# Altium footprint library IPC-7358 BGA_Sq_100P.PcbLib: 50 footprints (part 1 of 14)
Each footprint in its own frame and in the unit in brackets; x right, y up, seen from the top. Pads: shape width x height; smd on the part's side, far side on the other; paste and mask are expansions set on the pad; w line width, h text height; cw(c..) or ccw(c..) is an arc to the next point about the centre after c.
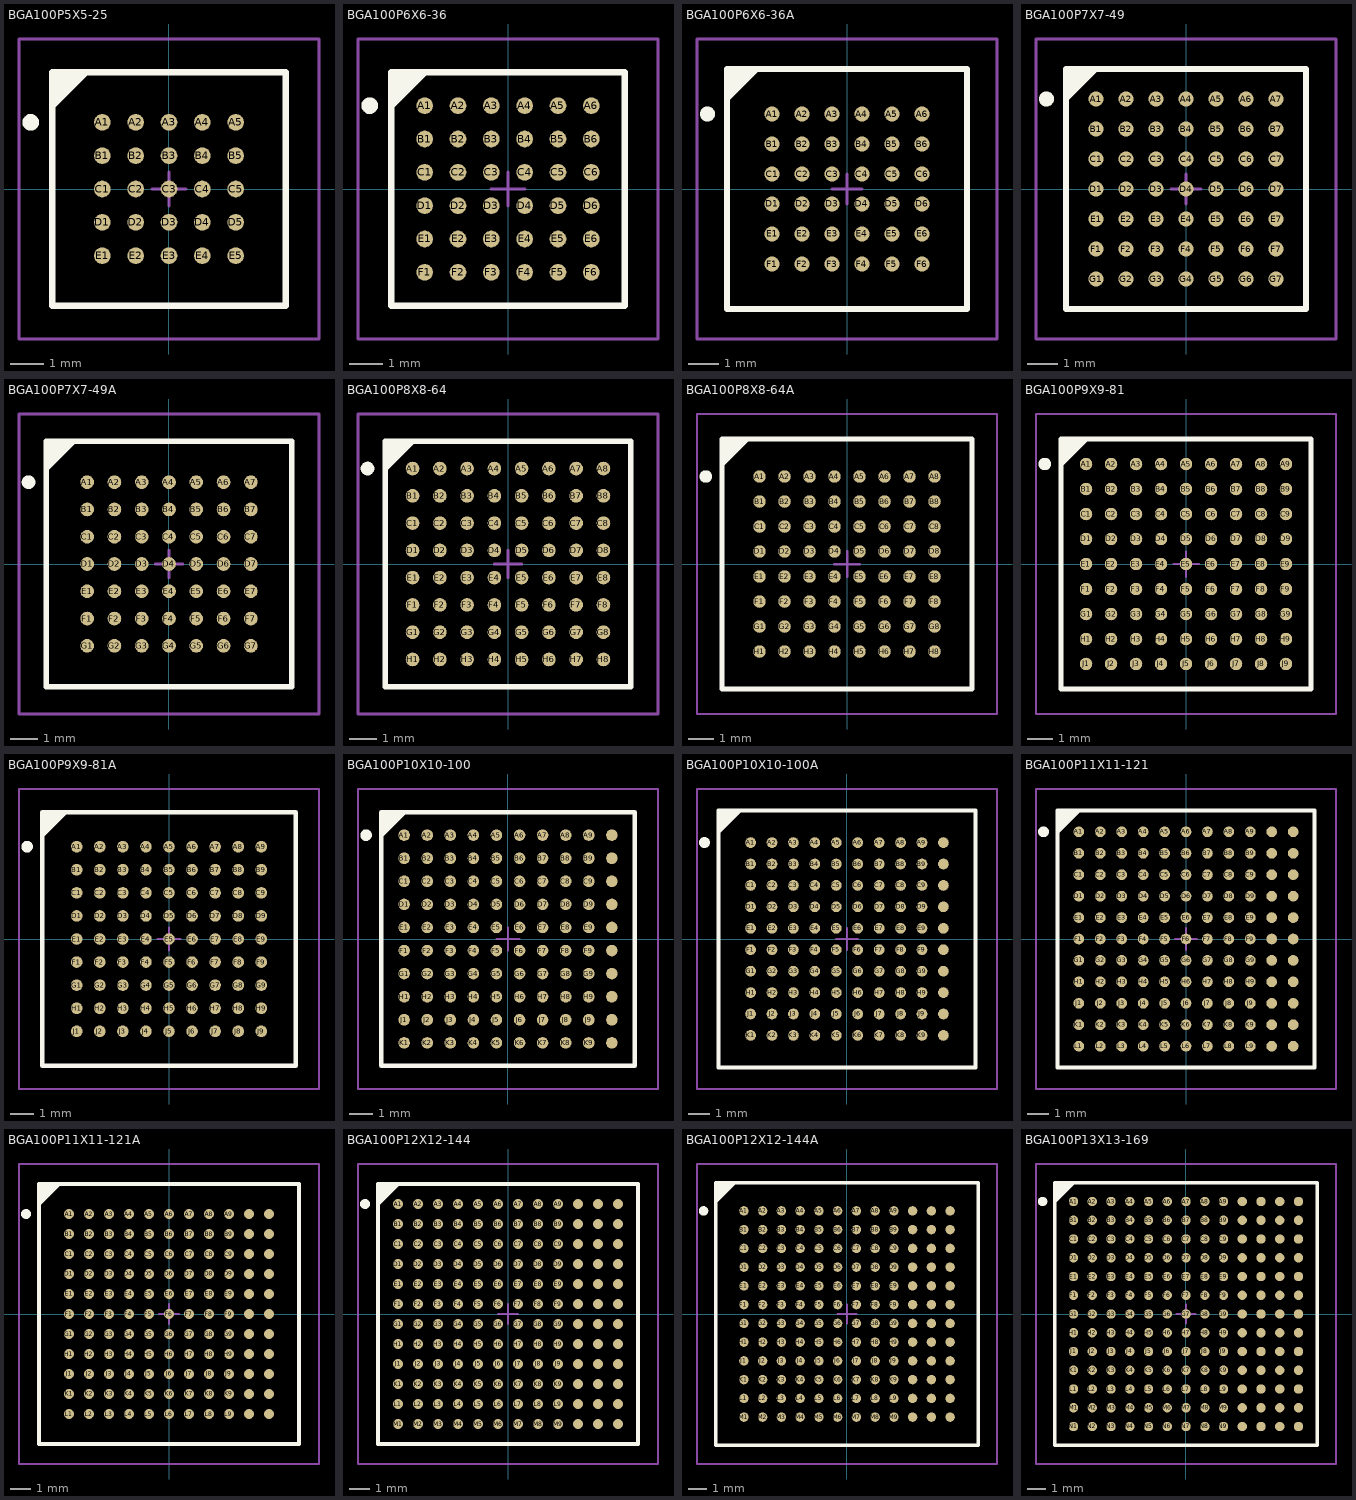
[diagram p0: the footprints below, top view; thin cyan lines are the x and y axes]

## BGA100P5X5-25 [mm] "BGA, 25-Leads, Body 7x7mm, Pitch 1mm"
height 3.5
pads (25):
  round 0.5 smd: A1(-2,2) A2(-1,2) A3(0,2) A4(1,2) A5(2,2) B1(-2,1) B2(-1,1) B3(0,1) B4(1,1) B5(2,1) C1(-2,0) C2(-1,0) C3(0,0) C4(1,0) C5(2,0) D1(-2,-1) D2(-1,-1) D3(0,-1) D4(1,-1) D5(2,-1) E1(-2,-2) E2(-1,-2) E3(0,-2) E4(1,-2) E5(2,-2)
Top Overlay:
  circle w0.25: c-4.15,2 r0.125
  region: -2.5,3.5 -3.5,2.5 -3.5,3.5
  lines w0.2: -3.5,2.5 -2.5,3.5 ; -3.5,-3.5 3.5,-3.5 3.5,3.5 -3.5,3.5 -3.5,-3.5
Mechanical 13:
  lines w0.1: -3.5,-3.5 3.5,-3.5 3.5,3.5 -3.5,3.5 -3.5,-3.5
Mechanical 15:
  lines w0.1: -0.5,0 0.5,0 ; 0,-0.5 0,0.5 ; -4.5,-4.5 4.5,-4.5 4.5,4.5 -4.5,4.5 -4.5,-4.5
3D body: height 3.5, standoff 0, extent -3.5,-3.5 3.5,3.5

## BGA100P6X6-36 [mm] "BGA, 36-Leads, Body 7x7mm, Pitch 1mm"
height 3.5
pads (36):
  round 0.5 smd: A1(-2.5,2.5) A2(-1.5,2.5) A3(-0.5,2.5) A4(0.5,2.5) A5(1.5,2.5) A6(2.5,2.5) B1(-2.5,1.5) B2(-1.5,1.5) B3(-0.5,1.5) B4(0.5,1.5) B5(1.5,1.5) B6(2.5,1.5) C1(-2.5,0.5) C2(-1.5,0.5) C3(-0.5,0.5) C4(0.5,0.5) C5(1.5,0.5) C6(2.5,0.5) D1(-2.5,-0.5) D2(-1.5,-0.5) D3(-0.5,-0.5) D4(0.5,-0.5) D5(1.5,-0.5) D6(2.5,-0.5) E1(-2.5,-1.5) E2(-1.5,-1.5) E3(-0.5,-1.5) E4(0.5,-1.5) E5(1.5,-1.5) E6(2.5,-1.5) F1(-2.5,-2.5) F2(-1.5,-2.5) F3(-0.5,-2.5) F4(0.5,-2.5) F5(1.5,-2.5) F6(2.5,-2.5)
Top Overlay:
  circle w0.25: c-4.15,2.5 r0.125
  region: -2.5,3.5 -3.5,2.5 -3.5,3.5
  lines w0.2: -3.5,2.5 -2.5,3.5 ; -3.5,-3.5 3.5,-3.5 3.5,3.5 -3.5,3.5 -3.5,-3.5
Mechanical 13:
  lines w0.1: -3.5,-3.5 3.5,-3.5 3.5,3.5 -3.5,3.5 -3.5,-3.5
Mechanical 15:
  lines w0.1: -0.5,0 0.5,0 ; 0,-0.5 0,0.5 ; -4.5,-4.5 4.5,-4.5 4.5,4.5 -4.5,4.5 -4.5,-4.5
3D body: height 3.5, standoff 0, extent -3.5,-3.5 3.5,3.5

## BGA100P6X6-36A [mm] "BGA, 36-Leads, Body 8x8mm, Pitch 1mm"
height 3.5
pads (36):
  round 0.5 smd: A1(-2.5,2.5) A2(-1.5,2.5) A3(-0.5,2.5) A4(0.5,2.5) A5(1.5,2.5) A6(2.5,2.5) B1(-2.5,1.5) B2(-1.5,1.5) B3(-0.5,1.5) B4(0.5,1.5) B5(1.5,1.5) B6(2.5,1.5) C1(-2.5,0.5) C2(-1.5,0.5) C3(-0.5,0.5) C4(0.5,0.5) C5(1.5,0.5) C6(2.5,0.5) D1(-2.5,-0.5) D2(-1.5,-0.5) D3(-0.5,-0.5) D4(0.5,-0.5) D5(1.5,-0.5) D6(2.5,-0.5) E1(-2.5,-1.5) E2(-1.5,-1.5) E3(-0.5,-1.5) E4(0.5,-1.5) E5(1.5,-1.5) E6(2.5,-1.5) F1(-2.5,-2.5) F2(-1.5,-2.5) F3(-0.5,-2.5) F4(0.5,-2.5) F5(1.5,-2.5) F6(2.5,-2.5)
Top Overlay:
  circle w0.25: c-4.65,2.5 r0.125
  region: -3,4 -4,3 -4,4
  lines w0.2: -4,3 -3,4 ; -4,-4 4,-4 4,4 -4,4 -4,-4
Mechanical 13:
  lines w0.1: -4,-4 4,-4 4,4 -4,4 -4,-4
Mechanical 15:
  lines w0.1: -0.5,0 0.5,0 ; 0,-0.5 0,0.5 ; -5,-5 5,-5 5,5 -5,5 -5,-5
3D body: height 3.5, standoff 0, extent -4,-4 4,4

## BGA100P7X7-49 [mm] "BGA, 49-Leads, Body 8x8mm, Pitch 1mm"
height 3.5
pads (49):
  round 0.5 smd: A1(-3,3) A2(-2,3) A3(-1,3) A4(0,3) A5(1,3) A6(2,3) A7(3,3) B1(-3,2) B2(-2,2) B3(-1,2) B4(0,2) B5(1,2) B6(2,2) B7(3,2) C1(-3,1) C2(-2,1) C3(-1,1) C4(0,1) C5(1,1) C6(2,1) C7(3,1) D1(-3,0) D2(-2,0) D3(-1,0) D4(0,0) D5(1,0) D6(2,0) D7(3,0) E1(-3,-1) E2(-2,-1) E3(-1,-1) E4(0,-1) E5(1,-1) E6(2,-1) E7(3,-1) F1(-3,-2) F2(-2,-2) F3(-1,-2) F4(0,-2) F5(1,-2) F6(2,-2) F7(3,-2) G1(-3,-3) G2(-2,-3) G3(-1,-3) G4(0,-3) G5(1,-3) G6(2,-3) G7(3,-3)
Top Overlay:
  circle w0.25: c-4.65,3 r0.125
  region: -3,4 -4,3 -4,4
  lines w0.2: -4,3 -3,4 ; -4,-4 4,-4 4,4 -4,4 -4,-4
Mechanical 13:
  lines w0.1: -4,-4 4,-4 4,4 -4,4 -4,-4
Mechanical 15:
  lines w0.1: -0.5,0 0.5,0 ; 0,-0.5 0,0.5 ; -5,-5 5,-5 5,5 -5,5 -5,-5
3D body: height 3.5, standoff 0, extent -4,-4 4,4

## BGA100P7X7-49A [mm] "BGA, 49-Leads, Body 9x9mm, Pitch 1mm"
height 3.5
pads (49):
  round 0.5 smd: A1(-3,3) A2(-2,3) A3(-1,3) A4(0,3) A5(1,3) A6(2,3) A7(3,3) B1(-3,2) B2(-2,2) B3(-1,2) B4(0,2) B5(1,2) B6(2,2) B7(3,2) C1(-3,1) C2(-2,1) C3(-1,1) C4(0,1) C5(1,1) C6(2,1) C7(3,1) D1(-3,0) D2(-2,0) D3(-1,0) D4(0,0) D5(1,0) D6(2,0) D7(3,0) E1(-3,-1) E2(-2,-1) E3(-1,-1) E4(0,-1) E5(1,-1) E6(2,-1) E7(3,-1) F1(-3,-2) F2(-2,-2) F3(-1,-2) F4(0,-2) F5(1,-2) F6(2,-2) F7(3,-2) G1(-3,-3) G2(-2,-3) G3(-1,-3) G4(0,-3) G5(1,-3) G6(2,-3) G7(3,-3)
Top Overlay:
  circle w0.25: c-5.15,3 r0.125
  region: -3.5,4.5 -4.5,3.5 -4.5,4.5
  lines w0.2: -4.5,3.5 -3.5,4.5 ; -4.5,-4.5 4.5,-4.5 4.5,4.5 -4.5,4.5 -4.5,-4.5
Mechanical 13:
  lines w0.1: -4.5,-4.5 4.5,-4.5 4.5,4.5 -4.5,4.5 -4.5,-4.5
Mechanical 15:
  lines w0.1: -0.5,0 0.5,0 ; 0,-0.5 0,0.5 ; -5.5,-5.5 5.5,-5.5 5.5,5.5 -5.5,5.5 -5.5,-5.5
3D body: height 3.5, standoff 0, extent -4.5,-4.5 4.5,4.5

## BGA100P8X8-64 [mm] "BGA, 64-Leads, Body 9x9mm, Pitch 1mm"
height 3.5
pads (64):
  round 0.5 smd: A1(-3.5,3.5) A2(-2.5,3.5) A3(-1.5,3.5) A4(-0.5,3.5) A5(0.5,3.5) A6(1.5,3.5) A7(2.5,3.5) A8(3.5,3.5) B1(-3.5,2.5) B2(-2.5,2.5) B3(-1.5,2.5) B4(-0.5,2.5) B5(0.5,2.5) B6(1.5,2.5) B7(2.5,2.5) B8(3.5,2.5) C1(-3.5,1.5) C2(-2.5,1.5) C3(-1.5,1.5) C4(-0.5,1.5) C5(0.5,1.5) C6(1.5,1.5) C7(2.5,1.5) C8(3.5,1.5) D1(-3.5,0.5) D2(-2.5,0.5) D3(-1.5,0.5) D4(-0.5,0.5) D5(0.5,0.5) D6(1.5,0.5) D7(2.5,0.5) D8(3.5,0.5) E1(-3.5,-0.5) E2(-2.5,-0.5) E3(-1.5,-0.5) E4(-0.5,-0.5) E5(0.5,-0.5) E6(1.5,-0.5) E7(2.5,-0.5) E8(3.5,-0.5) F1(-3.5,-1.5) F2(-2.5,-1.5) F3(-1.5,-1.5) F4(-0.5,-1.5) F5(0.5,-1.5) F6(1.5,-1.5) F7(2.5,-1.5) F8(3.5,-1.5) G1(-3.5,-2.5) G2(-2.5,-2.5) G3(-1.5,-2.5) G4(-0.5,-2.5) G5(0.5,-2.5) G6(1.5,-2.5) G7(2.5,-2.5) G8(3.5,-2.5) H1(-3.5,-3.5) H2(-2.5,-3.5) H3(-1.5,-3.5) H4(-0.5,-3.5) H5(0.5,-3.5) H6(1.5,-3.5) H7(2.5,-3.5) H8(3.5,-3.5)
Top Overlay:
  circle w0.25: c-5.15,3.5 r0.125
  region: -3.5,4.5 -4.5,3.5 -4.5,4.5
  lines w0.2: -4.5,3.5 -3.5,4.5 ; -4.5,-4.5 4.5,-4.5 4.5,4.5 -4.5,4.5 -4.5,-4.5
Mechanical 13:
  lines w0.1: -4.5,-4.5 4.5,-4.5 4.5,4.5 -4.5,4.5 -4.5,-4.5
Mechanical 15:
  lines w0.1: -0.5,0 0.5,0 ; 0,-0.5 0,0.5 ; -5.5,-5.5 5.5,-5.5 5.5,5.5 -5.5,5.5 -5.5,-5.5
3D body: height 3.5, standoff 0, extent -4.5,-4.5 4.5,4.5

## BGA100P8X8-64A [mm] "BGA, 64-Leads, Body 10x10mm, Pitch 1mm"
height 3.5
pads (64):
  round 0.5 smd: A1(-3.5,3.5) A2(-2.5,3.5) A3(-1.5,3.5) A4(-0.5,3.5) A5(0.5,3.5) A6(1.5,3.5) A7(2.5,3.5) A8(3.5,3.5) B1(-3.5,2.5) B2(-2.5,2.5) B3(-1.5,2.5) B4(-0.5,2.5) B5(0.5,2.5) B6(1.5,2.5) B7(2.5,2.5) B8(3.5,2.5) C1(-3.5,1.5) C2(-2.5,1.5) C3(-1.5,1.5) C4(-0.5,1.5) C5(0.5,1.5) C6(1.5,1.5) C7(2.5,1.5) C8(3.5,1.5) D1(-3.5,0.5) D2(-2.5,0.5) D3(-1.5,0.5) D4(-0.5,0.5) D5(0.5,0.5) D6(1.5,0.5) D7(2.5,0.5) D8(3.5,0.5) E1(-3.5,-0.5) E2(-2.5,-0.5) E3(-1.5,-0.5) E4(-0.5,-0.5) E5(0.5,-0.5) E6(1.5,-0.5) E7(2.5,-0.5) E8(3.5,-0.5) F1(-3.5,-1.5) F2(-2.5,-1.5) F3(-1.5,-1.5) F4(-0.5,-1.5) F5(0.5,-1.5) F6(1.5,-1.5) F7(2.5,-1.5) F8(3.5,-1.5) G1(-3.5,-2.5) G2(-2.5,-2.5) G3(-1.5,-2.5) G4(-0.5,-2.5) G5(0.5,-2.5) G6(1.5,-2.5) G7(2.5,-2.5) G8(3.5,-2.5) H1(-3.5,-3.5) H2(-2.5,-3.5) H3(-1.5,-3.5) H4(-0.5,-3.5) H5(0.5,-3.5) H6(1.5,-3.5) H7(2.5,-3.5) H8(3.5,-3.5)
Top Overlay:
  circle w0.25: c-5.65,3.5 r0.125
  region: -4,5 -5,4 -5,5
  lines w0.2: -5,4 -4,5 ; -5,-5 5,-5 5,5 -5,5 -5,-5
Mechanical 13:
  lines w0.1: -5,-5 5,-5 5,5 -5,5 -5,-5
Mechanical 15:
  lines w0.1: -0.5,0 0.5,0 ; 0,-0.5 0,0.5 ; -6,-6 6,-6 6,6 -6,6 -6,-6
3D body: height 3.5, standoff 0, extent -5,-5 5,5

## BGA100P9X9-81 [mm] "BGA, 81-Leads, Body 10x10mm, Pitch 1mm"
height 3.5
pads (81):
  round 0.5 smd: A1(-4,4) A2(-3,4) A3(-2,4) A4(-1,4) A5(0,4) A6(1,4) A7(2,4) A8(3,4) A9(4,4) B1(-4,3) B2(-3,3) B3(-2,3) B4(-1,3) B5(0,3) B6(1,3) B7(2,3) B8(3,3) B9(4,3) C1(-4,2) C2(-3,2) C3(-2,2) C4(-1,2) C5(0,2) C6(1,2) C7(2,2) C8(3,2) C9(4,2) D1(-4,1) D2(-3,1) D3(-2,1) D4(-1,1) D5(0,1) D6(1,1) D7(2,1) D8(3,1) D9(4,1) E1(-4,0) E2(-3,0) E3(-2,0) E4(-1,0) E5(0,0) E6(1,0) E7(2,0) E8(3,0) E9(4,0) F1(-4,-1) F2(-3,-1) F3(-2,-1) F4(-1,-1) F5(0,-1) F6(1,-1) F7(2,-1) F8(3,-1) F9(4,-1) G1(-4,-2) G2(-3,-2) G3(-2,-2) G4(-1,-2) G5(0,-2) G6(1,-2) G7(2,-2) G8(3,-2) G9(4,-2) H1(-4,-3) H2(-3,-3) H3(-2,-3) H4(-1,-3) H5(0,-3) H6(1,-3) H7(2,-3) H8(3,-3) H9(4,-3) J1(-4,-4) J2(-3,-4) J3(-2,-4) J4(-1,-4) J5(0,-4) J6(1,-4) J7(2,-4) J8(3,-4) J9(4,-4)
Top Overlay:
  circle w0.25: c-5.65,4 r0.125
  region: -4,5 -5,4 -5,5
  lines w0.2: -5,4 -4,5 ; -5,-5 5,-5 5,5 -5,5 -5,-5
Mechanical 13:
  lines w0.1: -5,-5 5,-5 5,5 -5,5 -5,-5
Mechanical 15:
  lines w0.1: -0.5,0 0.5,0 ; 0,-0.5 0,0.5 ; -6,-6 6,-6 6,6 -6,6 -6,-6
3D body: height 3.5, standoff 0, extent -5,-5 5,5

## BGA100P9X9-81A [mm] "BGA, 81-Leads, Body 11x11mm, Pitch 1mm"
height 3.5
pads (81):
  round 0.5 smd: A1(-4,4) A2(-3,4) A3(-2,4) A4(-1,4) A5(0,4) A6(1,4) A7(2,4) A8(3,4) A9(4,4) B1(-4,3) B2(-3,3) B3(-2,3) B4(-1,3) B5(0,3) B6(1,3) B7(2,3) B8(3,3) B9(4,3) C1(-4,2) C2(-3,2) C3(-2,2) C4(-1,2) C5(0,2) C6(1,2) C7(2,2) C8(3,2) C9(4,2) D1(-4,1) D2(-3,1) D3(-2,1) D4(-1,1) D5(0,1) D6(1,1) D7(2,1) D8(3,1) D9(4,1) E1(-4,0) E2(-3,0) E3(-2,0) E4(-1,0) E5(0,0) E6(1,0) E7(2,0) E8(3,0) E9(4,0) F1(-4,-1) F2(-3,-1) F3(-2,-1) F4(-1,-1) F5(0,-1) F6(1,-1) F7(2,-1) F8(3,-1) F9(4,-1) G1(-4,-2) G2(-3,-2) G3(-2,-2) G4(-1,-2) G5(0,-2) G6(1,-2) G7(2,-2) G8(3,-2) G9(4,-2) H1(-4,-3) H2(-3,-3) H3(-2,-3) H4(-1,-3) H5(0,-3) H6(1,-3) H7(2,-3) H8(3,-3) H9(4,-3) J1(-4,-4) J2(-3,-4) J3(-2,-4) J4(-1,-4) J5(0,-4) J6(1,-4) J7(2,-4) J8(3,-4) J9(4,-4)
Top Overlay:
  circle w0.25: c-6.15,4 r0.125
  region: -4.5,5.5 -5.5,4.5 -5.5,5.5
  lines w0.2: -5.5,4.5 -4.5,5.5 ; -5.5,-5.5 5.5,-5.5 5.5,5.5 -5.5,5.5 -5.5,-5.5
Mechanical 13:
  lines w0.1: -5.5,-5.5 5.5,-5.5 5.5,5.5 -5.5,5.5 -5.5,-5.5
Mechanical 15:
  lines w0.1: -0.5,0 0.5,0 ; 0,-0.5 0,0.5 ; -6.5,-6.5 6.5,-6.5 6.5,6.5 -6.5,6.5 -6.5,-6.5
3D body: height 3.5, standoff 0, extent -5.5,-5.5 5.5,5.5

## BGA100P10X10-100 [mm] "BGA, 100-Leads, Body 11x11mm, Pitch 1mm"
height 3.5
pads (100):
  round 0.5 smd: A1(-4.5,4.5) A2(-3.5,4.5) A3(-2.5,4.5) A4(-1.5,4.5) A5(-0.5,4.5) A6(0.5,4.5) A7(1.5,4.5) A8(2.5,4.5) A9(3.5,4.5) A10(4.5,4.5) B1(-4.5,3.5) B2(-3.5,3.5) B3(-2.5,3.5) B4(-1.5,3.5) B5(-0.5,3.5) B6(0.5,3.5) B7(1.5,3.5) B8(2.5,3.5) B9(3.5,3.5) B10(4.5,3.5) C1(-4.5,2.5) C2(-3.5,2.5) C3(-2.5,2.5) C4(-1.5,2.5) C5(-0.5,2.5) C6(0.5,2.5) C7(1.5,2.5) C8(2.5,2.5) C9(3.5,2.5) C10(4.5,2.5) D1(-4.5,1.5) D2(-3.5,1.5) D3(-2.5,1.5) D4(-1.5,1.5) D5(-0.5,1.5) D6(0.5,1.5) D7(1.5,1.5) D8(2.5,1.5) D9(3.5,1.5) D10(4.5,1.5) E1(-4.5,0.5) E2(-3.5,0.5) E3(-2.5,0.5) E4(-1.5,0.5) E5(-0.5,0.5) E6(0.5,0.5) E7(1.5,0.5) E8(2.5,0.5) E9(3.5,0.5) E10(4.5,0.5) F1(-4.5,-0.5) F2(-3.5,-0.5) F3(-2.5,-0.5) F4(-1.5,-0.5) F5(-0.5,-0.5) F6(0.5,-0.5) F7(1.5,-0.5) F8(2.5,-0.5) F9(3.5,-0.5) F10(4.5,-0.5) G1(-4.5,-1.5) G2(-3.5,-1.5) G3(-2.5,-1.5) G4(-1.5,-1.5) G5(-0.5,-1.5) G6(0.5,-1.5) G7(1.5,-1.5) G8(2.5,-1.5) G9(3.5,-1.5) G10(4.5,-1.5) H1(-4.5,-2.5) H2(-3.5,-2.5) H3(-2.5,-2.5) H4(-1.5,-2.5) H5(-0.5,-2.5) H6(0.5,-2.5) H7(1.5,-2.5) H8(2.5,-2.5) H9(3.5,-2.5) H10(4.5,-2.5) J1(-4.5,-3.5) J2(-3.5,-3.5) J3(-2.5,-3.5) J4(-1.5,-3.5) J5(-0.5,-3.5) J6(0.5,-3.5) J7(1.5,-3.5) J8(2.5,-3.5) J9(3.5,-3.5) J10(4.5,-3.5) K1(-4.5,-4.5) K2(-3.5,-4.5) K3(-2.5,-4.5) K4(-1.5,-4.5) K5(-0.5,-4.5) K6(0.5,-4.5) K7(1.5,-4.5) K8(2.5,-4.5) K9(3.5,-4.5) K10(4.5,-4.5)
Top Overlay:
  circle w0.25: c-6.15,4.5 r0.125
  region: -4.5,5.5 -5.5,4.5 -5.5,5.5
  lines w0.2: -5.5,4.5 -4.5,5.5 ; -5.5,-5.5 5.5,-5.5 5.5,5.5 -5.5,5.5 -5.5,-5.5
Mechanical 13:
  lines w0.1: -5.5,-5.5 5.5,-5.5 5.5,5.5 -5.5,5.5 -5.5,-5.5
Mechanical 15:
  lines w0.1: -0.5,0 0.5,0 ; 0,-0.5 0,0.5 ; -6.5,-6.5 6.5,-6.5 6.5,6.5 -6.5,6.5 -6.5,-6.5
3D body: height 3.5, standoff 0, extent -5.5,-5.5 5.5,5.5

## BGA100P10X10-100A [mm] "BGA, 100-Leads, Body 12x12mm, Pitch 1mm"
height 3.5
pads (100):
  round 0.5 smd: A1(-4.5,4.5) A2(-3.5,4.5) A3(-2.5,4.5) A4(-1.5,4.5) A5(-0.5,4.5) A6(0.5,4.5) A7(1.5,4.5) A8(2.5,4.5) A9(3.5,4.5) A10(4.5,4.5) B1(-4.5,3.5) B2(-3.5,3.5) B3(-2.5,3.5) B4(-1.5,3.5) B5(-0.5,3.5) B6(0.5,3.5) B7(1.5,3.5) B8(2.5,3.5) B9(3.5,3.5) B10(4.5,3.5) C1(-4.5,2.5) C2(-3.5,2.5) C3(-2.5,2.5) C4(-1.5,2.5) C5(-0.5,2.5) C6(0.5,2.5) C7(1.5,2.5) C8(2.5,2.5) C9(3.5,2.5) C10(4.5,2.5) D1(-4.5,1.5) D2(-3.5,1.5) D3(-2.5,1.5) D4(-1.5,1.5) D5(-0.5,1.5) D6(0.5,1.5) D7(1.5,1.5) D8(2.5,1.5) D9(3.5,1.5) D10(4.5,1.5) E1(-4.5,0.5) E2(-3.5,0.5) E3(-2.5,0.5) E4(-1.5,0.5) E5(-0.5,0.5) E6(0.5,0.5) E7(1.5,0.5) E8(2.5,0.5) E9(3.5,0.5) E10(4.5,0.5) F1(-4.5,-0.5) F2(-3.5,-0.5) F3(-2.5,-0.5) F4(-1.5,-0.5) F5(-0.5,-0.5) F6(0.5,-0.5) F7(1.5,-0.5) F8(2.5,-0.5) F9(3.5,-0.5) F10(4.5,-0.5) G1(-4.5,-1.5) G2(-3.5,-1.5) G3(-2.5,-1.5) G4(-1.5,-1.5) G5(-0.5,-1.5) G6(0.5,-1.5) G7(1.5,-1.5) G8(2.5,-1.5) G9(3.5,-1.5) G10(4.5,-1.5) H1(-4.5,-2.5) H2(-3.5,-2.5) H3(-2.5,-2.5) H4(-1.5,-2.5) H5(-0.5,-2.5) H6(0.5,-2.5) H7(1.5,-2.5) H8(2.5,-2.5) H9(3.5,-2.5) H10(4.5,-2.5) J1(-4.5,-3.5) J2(-3.5,-3.5) J3(-2.5,-3.5) J4(-1.5,-3.5) J5(-0.5,-3.5) J6(0.5,-3.5) J7(1.5,-3.5) J8(2.5,-3.5) J9(3.5,-3.5) J10(4.5,-3.5) K1(-4.5,-4.5) K2(-3.5,-4.5) K3(-2.5,-4.5) K4(-1.5,-4.5) K5(-0.5,-4.5) K6(0.5,-4.5) K7(1.5,-4.5) K8(2.5,-4.5) K9(3.5,-4.5) K10(4.5,-4.5)
Top Overlay:
  circle w0.25: c-6.65,4.5 r0.125
  region: -5,6 -6,5 -6,6
  lines w0.2: -6,5 -5,6 ; -6,-6 6,-6 6,6 -6,6 -6,-6
Mechanical 13:
  lines w0.1: -6,-6 6,-6 6,6 -6,6 -6,-6
Mechanical 15:
  lines w0.1: -0.5,0 0.5,0 ; 0,-0.5 0,0.5 ; -7,-7 7,-7 7,7 -7,7 -7,-7
3D body: height 3.5, standoff 0, extent -6,-6 6,6

## BGA100P11X11-121 [mm] "BGA, 121-Leads, Body 12x12mm, Pitch 1mm"
height 3.5
pads (121):
  round 0.5 smd: A1(-5,5) A2(-4,5) A3(-3,5) A4(-2,5) A5(-1,5) A6(0,5) A7(1,5) A8(2,5) A9(3,5) A10(4,5) A11(5,5) B1(-5,4) B2(-4,4) B3(-3,4) B4(-2,4) B5(-1,4) B6(0,4) B7(1,4) B8(2,4) B9(3,4) B10(4,4) B11(5,4) C1(-5,3) C2(-4,3) C3(-3,3) C4(-2,3) C5(-1,3) C6(0,3) C7(1,3) C8(2,3) C9(3,3) C10(4,3) C11(5,3) D1(-5,2) D2(-4,2) D3(-3,2) D4(-2,2) D5(-1,2) D6(0,2) D7(1,2) D8(2,2) D9(3,2) D10(4,2) D11(5,2) E1(-5,1) E2(-4,1) E3(-3,1) E4(-2,1) E5(-1,1) E6(0,1) E7(1,1) E8(2,1) E9(3,1) E10(4,1) E11(5,1) F1(-5,0) F2(-4,0) F3(-3,0) F4(-2,0) F5(-1,0) F6(0,0) F7(1,0) F8(2,0) F9(3,0) F10(4,0) F11(5,0) G1(-5,-1) G2(-4,-1) G3(-3,-1) G4(-2,-1) G5(-1,-1) G6(0,-1) G7(1,-1) G8(2,-1) G9(3,-1) G10(4,-1) G11(5,-1) H1(-5,-2) H2(-4,-2) H3(-3,-2) H4(-2,-2) H5(-1,-2) H6(0,-2) H7(1,-2) H8(2,-2) H9(3,-2) H10(4,-2) H11(5,-2) J1(-5,-3) J2(-4,-3) J3(-3,-3) J4(-2,-3) J5(-1,-3) J6(0,-3) J7(1,-3) J8(2,-3) J9(3,-3) J10(4,-3) J11(5,-3) K1(-5,-4) K2(-4,-4) K3(-3,-4) K4(-2,-4) K5(-1,-4) K6(0,-4) K7(1,-4) K8(2,-4) K9(3,-4) K10(4,-4) K11(5,-4) L1(-5,-5) L2(-4,-5) L3(-3,-5) L4(-2,-5) L5(-1,-5) L6(0,-5) L7(1,-5) L8(2,-5) L9(3,-5) L10(4,-5) L11(5,-5)
Top Overlay:
  circle w0.25: c-6.65,5 r0.125
  region: -5,6 -6,5 -6,6
  lines w0.2: -6,5 -5,6 ; -6,-6 6,-6 6,6 -6,6 -6,-6
Mechanical 13:
  lines w0.1: -6,-6 6,-6 6,6 -6,6 -6,-6
Mechanical 15:
  lines w0.1: -0.5,0 0.5,0 ; 0,-0.5 0,0.5 ; -7,-7 7,-7 7,7 -7,7 -7,-7
3D body: height 3.5, standoff 0, extent -6,-6 6,6

## BGA100P11X11-121A [mm] "BGA, 121-Leads, Body 13x13mm, Pitch 1mm"
height 3.5
pads (121):
  round 0.5 smd: A1(-5,5) A2(-4,5) A3(-3,5) A4(-2,5) A5(-1,5) A6(0,5) A7(1,5) A8(2,5) A9(3,5) A10(4,5) A11(5,5) B1(-5,4) B2(-4,4) B3(-3,4) B4(-2,4) B5(-1,4) B6(0,4) B7(1,4) B8(2,4) B9(3,4) B10(4,4) B11(5,4) C1(-5,3) C2(-4,3) C3(-3,3) C4(-2,3) C5(-1,3) C6(0,3) C7(1,3) C8(2,3) C9(3,3) C10(4,3) C11(5,3) D1(-5,2) D2(-4,2) D3(-3,2) D4(-2,2) D5(-1,2) D6(0,2) D7(1,2) D8(2,2) D9(3,2) D10(4,2) D11(5,2) E1(-5,1) E2(-4,1) E3(-3,1) E4(-2,1) E5(-1,1) E6(0,1) E7(1,1) E8(2,1) E9(3,1) E10(4,1) E11(5,1) F1(-5,0) F2(-4,0) F3(-3,0) F4(-2,0) F5(-1,0) F6(0,0) F7(1,0) F8(2,0) F9(3,0) F10(4,0) F11(5,0) G1(-5,-1) G2(-4,-1) G3(-3,-1) G4(-2,-1) G5(-1,-1) G6(0,-1) G7(1,-1) G8(2,-1) G9(3,-1) G10(4,-1) G11(5,-1) H1(-5,-2) H2(-4,-2) H3(-3,-2) H4(-2,-2) H5(-1,-2) H6(0,-2) H7(1,-2) H8(2,-2) H9(3,-2) H10(4,-2) H11(5,-2) J1(-5,-3) J2(-4,-3) J3(-3,-3) J4(-2,-3) J5(-1,-3) J6(0,-3) J7(1,-3) J8(2,-3) J9(3,-3) J10(4,-3) J11(5,-3) K1(-5,-4) K2(-4,-4) K3(-3,-4) K4(-2,-4) K5(-1,-4) K6(0,-4) K7(1,-4) K8(2,-4) K9(3,-4) K10(4,-4) K11(5,-4) L1(-5,-5) L2(-4,-5) L3(-3,-5) L4(-2,-5) L5(-1,-5) L6(0,-5) L7(1,-5) L8(2,-5) L9(3,-5) L10(4,-5) L11(5,-5)
Top Overlay:
  circle w0.25: c-7.15,5 r0.125
  region: -5.5,6.5 -6.5,5.5 -6.5,6.5
  lines w0.2: -6.5,5.5 -5.5,6.5 ; -6.5,-6.5 6.5,-6.5 6.5,6.5 -6.5,6.5 -6.5,-6.5
Mechanical 13:
  lines w0.1: -6.5,-6.5 6.5,-6.5 6.5,6.5 -6.5,6.5 -6.5,-6.5
Mechanical 15:
  lines w0.1: -0.5,0 0.5,0 ; 0,-0.5 0,0.5 ; -7.5,-7.5 7.5,-7.5 7.5,7.5 -7.5,7.5 -7.5,-7.5
3D body: height 3.5, standoff 0, extent -6.5,-6.5 6.5,6.5

## BGA100P12X12-144 [mm] "BGA, 144-Leads, Body 13x13mm, Pitch 1mm"
height 3.5
pads (144):
  round 0.5 smd: A1(-5.5,5.5) A2(-4.5,5.5) A3(-3.5,5.5) A4(-2.5,5.5) A5(-1.5,5.5) A6(-0.5,5.5) A7(0.5,5.5) A8(1.5,5.5) A9(2.5,5.5) A10(3.5,5.5) A11(4.5,5.5) A12(5.5,5.5) B1(-5.5,4.5) B2(-4.5,4.5) B3(-3.5,4.5) B4(-2.5,4.5) B5(-1.5,4.5) B6(-0.5,4.5) B7(0.5,4.5) B8(1.5,4.5) B9(2.5,4.5) B10(3.5,4.5) B11(4.5,4.5) B12(5.5,4.5) C1(-5.5,3.5) C2(-4.5,3.5) C3(-3.5,3.5) C4(-2.5,3.5) C5(-1.5,3.5) C6(-0.5,3.5) C7(0.5,3.5) C8(1.5,3.5) C9(2.5,3.5) C10(3.5,3.5) C11(4.5,3.5) C12(5.5,3.5) D1(-5.5,2.5) D2(-4.5,2.5) D3(-3.5,2.5) D4(-2.5,2.5) D5(-1.5,2.5) D6(-0.5,2.5) D7(0.5,2.5) D8(1.5,2.5) D9(2.5,2.5) D10(3.5,2.5) D11(4.5,2.5) D12(5.5,2.5) E1(-5.5,1.5) E2(-4.5,1.5) E3(-3.5,1.5) E4(-2.5,1.5) E5(-1.5,1.5) E6(-0.5,1.5) E7(0.5,1.5) E8(1.5,1.5) E9(2.5,1.5) E10(3.5,1.5) E11(4.5,1.5) E12(5.5,1.5) F1(-5.5,0.5) F2(-4.5,0.5) F3(-3.5,0.5) F4(-2.5,0.5) F5(-1.5,0.5) F6(-0.5,0.5) F7(0.5,0.5) F8(1.5,0.5) F9(2.5,0.5) F10(3.5,0.5) F11(4.5,0.5) F12(5.5,0.5) G1(-5.5,-0.5) G2(-4.5,-0.5) G3(-3.5,-0.5) G4(-2.5,-0.5) G5(-1.5,-0.5) G6(-0.5,-0.5) G7(0.5,-0.5) G8(1.5,-0.5) G9(2.5,-0.5) G10(3.5,-0.5) G11(4.5,-0.5) G12(5.5,-0.5) H1(-5.5,-1.5) H2(-4.5,-1.5) H3(-3.5,-1.5) H4(-2.5,-1.5) H5(-1.5,-1.5) H6(-0.5,-1.5) H7(0.5,-1.5) H8(1.5,-1.5) H9(2.5,-1.5) H10(3.5,-1.5) H11(4.5,-1.5) H12(5.5,-1.5) J1(-5.5,-2.5) J2(-4.5,-2.5) J3(-3.5,-2.5) J4(-2.5,-2.5) J5(-1.5,-2.5) J6(-0.5,-2.5) J7(0.5,-2.5) J8(1.5,-2.5) J9(2.5,-2.5) J10(3.5,-2.5) J11(4.5,-2.5) J12(5.5,-2.5) K1(-5.5,-3.5) K2(-4.5,-3.5) K3(-3.5,-3.5) K4(-2.5,-3.5) K5(-1.5,-3.5) K6(-0.5,-3.5) K7(0.5,-3.5) K8(1.5,-3.5) K9(2.5,-3.5) K10(3.5,-3.5) K11(4.5,-3.5) K12(5.5,-3.5) L1(-5.5,-4.5) L2(-4.5,-4.5) L3(-3.5,-4.5) L4(-2.5,-4.5) L5(-1.5,-4.5) L6(-0.5,-4.5) L7(0.5,-4.5) L8(1.5,-4.5) L9(2.5,-4.5) L10(3.5,-4.5) L11(4.5,-4.5) L12(5.5,-4.5) M1(-5.5,-5.5) M2(-4.5,-5.5) M3(-3.5,-5.5) M4(-2.5,-5.5) M5(-1.5,-5.5) M6(-0.5,-5.5) M7(0.5,-5.5) M8(1.5,-5.5) M9(2.5,-5.5) M10(3.5,-5.5) M11(4.5,-5.5) M12(5.5,-5.5)
Top Overlay:
  circle w0.25: c-7.15,5.5 r0.125
  region: -5.5,6.5 -6.5,5.5 -6.5,6.5
  lines w0.2: -6.5,5.5 -5.5,6.5 ; -6.5,-6.5 6.5,-6.5 6.5,6.5 -6.5,6.5 -6.5,-6.5
Mechanical 13:
  lines w0.1: -6.5,-6.5 6.5,-6.5 6.5,6.5 -6.5,6.5 -6.5,-6.5
Mechanical 15:
  lines w0.1: -0.5,0 0.5,0 ; 0,-0.5 0,0.5 ; -7.5,-7.5 7.5,-7.5 7.5,7.5 -7.5,7.5 -7.5,-7.5
3D body: height 3.5, standoff 0, extent -6.5,-6.5 6.5,6.5

## BGA100P12X12-144A [mm] "BGA, 144-Leads, Body 14x14mm, Pitch 1mm"
height 3.5
pads (144):
  round 0.5 smd: A1(-5.5,5.5) A2(-4.5,5.5) A3(-3.5,5.5) A4(-2.5,5.5) A5(-1.5,5.5) A6(-0.5,5.5) A7(0.5,5.5) A8(1.5,5.5) A9(2.5,5.5) A10(3.5,5.5) A11(4.5,5.5) A12(5.5,5.5) B1(-5.5,4.5) B2(-4.5,4.5) B3(-3.5,4.5) B4(-2.5,4.5) B5(-1.5,4.5) B6(-0.5,4.5) B7(0.5,4.5) B8(1.5,4.5) B9(2.5,4.5) B10(3.5,4.5) B11(4.5,4.5) B12(5.5,4.5) C1(-5.5,3.5) C2(-4.5,3.5) C3(-3.5,3.5) C4(-2.5,3.5) C5(-1.5,3.5) C6(-0.5,3.5) C7(0.5,3.5) C8(1.5,3.5) C9(2.5,3.5) C10(3.5,3.5) C11(4.5,3.5) C12(5.5,3.5) D1(-5.5,2.5) D2(-4.5,2.5) D3(-3.5,2.5) D4(-2.5,2.5) D5(-1.5,2.5) D6(-0.5,2.5) D7(0.5,2.5) D8(1.5,2.5) D9(2.5,2.5) D10(3.5,2.5) D11(4.5,2.5) D12(5.5,2.5) E1(-5.5,1.5) E2(-4.5,1.5) E3(-3.5,1.5) E4(-2.5,1.5) E5(-1.5,1.5) E6(-0.5,1.5) E7(0.5,1.5) E8(1.5,1.5) E9(2.5,1.5) E10(3.5,1.5) E11(4.5,1.5) E12(5.5,1.5) F1(-5.5,0.5) F2(-4.5,0.5) F3(-3.5,0.5) F4(-2.5,0.5) F5(-1.5,0.5) F6(-0.5,0.5) F7(0.5,0.5) F8(1.5,0.5) F9(2.5,0.5) F10(3.5,0.5) F11(4.5,0.5) F12(5.5,0.5) G1(-5.5,-0.5) G2(-4.5,-0.5) G3(-3.5,-0.5) G4(-2.5,-0.5) G5(-1.5,-0.5) G6(-0.5,-0.5) G7(0.5,-0.5) G8(1.5,-0.5) G9(2.5,-0.5) G10(3.5,-0.5) G11(4.5,-0.5) G12(5.5,-0.5) H1(-5.5,-1.5) H2(-4.5,-1.5) H3(-3.5,-1.5) H4(-2.5,-1.5) H5(-1.5,-1.5) H6(-0.5,-1.5) H7(0.5,-1.5) H8(1.5,-1.5) H9(2.5,-1.5) H10(3.5,-1.5) H11(4.5,-1.5) H12(5.5,-1.5) J1(-5.5,-2.5) J2(-4.5,-2.5) J3(-3.5,-2.5) J4(-2.5,-2.5) J5(-1.5,-2.5) J6(-0.5,-2.5) J7(0.5,-2.5) J8(1.5,-2.5) J9(2.5,-2.5) J10(3.5,-2.5) J11(4.5,-2.5) J12(5.5,-2.5) K1(-5.5,-3.5) K2(-4.5,-3.5) K3(-3.5,-3.5) K4(-2.5,-3.5) K5(-1.5,-3.5) K6(-0.5,-3.5) K7(0.5,-3.5) K8(1.5,-3.5) K9(2.5,-3.5) K10(3.5,-3.5) K11(4.5,-3.5) K12(5.5,-3.5) L1(-5.5,-4.5) L2(-4.5,-4.5) L3(-3.5,-4.5) L4(-2.5,-4.5) L5(-1.5,-4.5) L6(-0.5,-4.5) L7(0.5,-4.5) L8(1.5,-4.5) L9(2.5,-4.5) L10(3.5,-4.5) L11(4.5,-4.5) L12(5.5,-4.5) M1(-5.5,-5.5) M2(-4.5,-5.5) M3(-3.5,-5.5) M4(-2.5,-5.5) M5(-1.5,-5.5) M6(-0.5,-5.5) M7(0.5,-5.5) M8(1.5,-5.5) M9(2.5,-5.5) M10(3.5,-5.5) M11(4.5,-5.5) M12(5.5,-5.5)
Top Overlay:
  circle w0.25: c-7.65,5.5 r0.125
  region: -6,7 -7,6 -7,7
  lines w0.2: -7,6 -6,7 ; -7,-7 7,-7 7,7 -7,7 -7,-7
Mechanical 13:
  lines w0.1: -7,-7 7,-7 7,7 -7,7 -7,-7
Mechanical 15:
  lines w0.1: -0.5,0 0.5,0 ; 0,-0.5 0,0.5 ; -8,-8 8,-8 8,8 -8,8 -8,-8
3D body: height 3.5, standoff 0, extent -7,-7 7,7

## BGA100P13X13-169 [mm] "BGA, 169-Leads, Body 14x14mm, Pitch 1mm"
height 3.5
pads (169):
  round 0.5 smd: A1(-6,6) A2(-5,6) A3(-4,6) A4(-3,6) A5(-2,6) A6(-1,6) A7(0,6) A8(1,6) A9(2,6) A10(3,6) A11(4,6) A12(5,6) A13(6,6) B1(-6,5) B2(-5,5) B3(-4,5) B4(-3,5) B5(-2,5) B6(-1,5) B7(0,5) B8(1,5) B9(2,5) B10(3,5) B11(4,5) B12(5,5) B13(6,5) C1(-6,4) C2(-5,4) C3(-4,4) C4(-3,4) C5(-2,4) C6(-1,4) C7(0,4) C8(1,4) C9(2,4) C10(3,4) C11(4,4) C12(5,4) C13(6,4) D1(-6,3) D2(-5,3) D3(-4,3) D4(-3,3) D5(-2,3) D6(-1,3) D7(0,3) D8(1,3) D9(2,3) D10(3,3) D11(4,3) D12(5,3) D13(6,3) E1(-6,2) E2(-5,2) E3(-4,2) E4(-3,2) E5(-2,2) E6(-1,2) E7(0,2) E8(1,2) E9(2,2) E10(3,2) E11(4,2) E12(5,2) E13(6,2) F1(-6,1) F2(-5,1) F3(-4,1) F4(-3,1) F5(-2,1) F6(-1,1) F7(0,1) F8(1,1) F9(2,1) F10(3,1) F11(4,1) F12(5,1) F13(6,1) G1(-6,0) G2(-5,0) G3(-4,0) G4(-3,0) G5(-2,0) G6(-1,0) G7(0,0) G8(1,0) G9(2,0) G10(3,0) G11(4,0) G12(5,0) G13(6,0) H1(-6,-1) H2(-5,-1) H3(-4,-1) H4(-3,-1) H5(-2,-1) H6(-1,-1) H7(0,-1) H8(1,-1) H9(2,-1) H10(3,-1) H11(4,-1) H12(5,-1) H13(6,-1) J1(-6,-2) J2(-5,-2) J3(-4,-2) J4(-3,-2) J5(-2,-2) J6(-1,-2) J7(0,-2) J8(1,-2) J9(2,-2) J10(3,-2) J11(4,-2) J12(5,-2) J13(6,-2) K1(-6,-3) K2(-5,-3) K3(-4,-3) K4(-3,-3) K5(-2,-3) K6(-1,-3) K7(0,-3) K8(1,-3) K9(2,-3) K10(3,-3) K11(4,-3) K12(5,-3) K13(6,-3) L1(-6,-4) L2(-5,-4) L3(-4,-4) L4(-3,-4) L5(-2,-4) L6(-1,-4) L7(0,-4) L8(1,-4) L9(2,-4) L10(3,-4) L11(4,-4) L12(5,-4) L13(6,-4) M1(-6,-5) M2(-5,-5) M3(-4,-5) M4(-3,-5) M5(-2,-5) M6(-1,-5) M7(0,-5) M8(1,-5) M9(2,-5) M10(3,-5) M11(4,-5) M12(5,-5) M13(6,-5) N1(-6,-6) N2(-5,-6) N3(-4,-6) N4(-3,-6) N5(-2,-6) N6(-1,-6) N7(0,-6) N8(1,-6) N9(2,-6) N10(3,-6) N11(4,-6) N12(5,-6) N13(6,-6)
Top Overlay:
  circle w0.25: c-7.65,6 r0.125
  region: -6,7 -7,6 -7,7
  lines w0.2: -7,6 -6,7 ; -7,-7 7,-7 7,7 -7,7 -7,-7
Mechanical 13:
  lines w0.1: -7,-7 7,-7 7,7 -7,7 -7,-7
Mechanical 15:
  lines w0.1: -0.5,0 0.5,0 ; 0,-0.5 0,0.5 ; -8,-8 8,-8 8,8 -8,8 -8,-8
3D body: height 3.5, standoff 0, extent -7,-7 7,7